# Altium schematic symbol library led.SchLib: 1 symbol
Pins are listed as number, name and electrical type; pins without a type are passive.

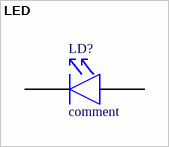
[diagram p0: symbol LED]

## LED
designator LD?, comment comment
LED 5mm/3mm/CMS
footprint LED5 (5mm LED)
footprint LED3 (3mm LED)
footprint LED1206
footprint LED0805
footprint 3528
footprint KINGBRIGHT-L174 (3mm LED)
footprint KINGBRIGHT-L1154 (3mm LED)
pins: A 8, K 10